# Altium footprint library SS_Connectors.PcbLib: 234 footprints (part 15 of 15)
Each footprint in its own frame and in the unit in brackets; x right, y up, seen from the top. Pads: shape width x height; smd on the part's side, far side on the other; paste and mask are expansions set on the pad; w line width, h text height; cw(c..) or ccw(c..) is an arc to the next point about the centre after c.
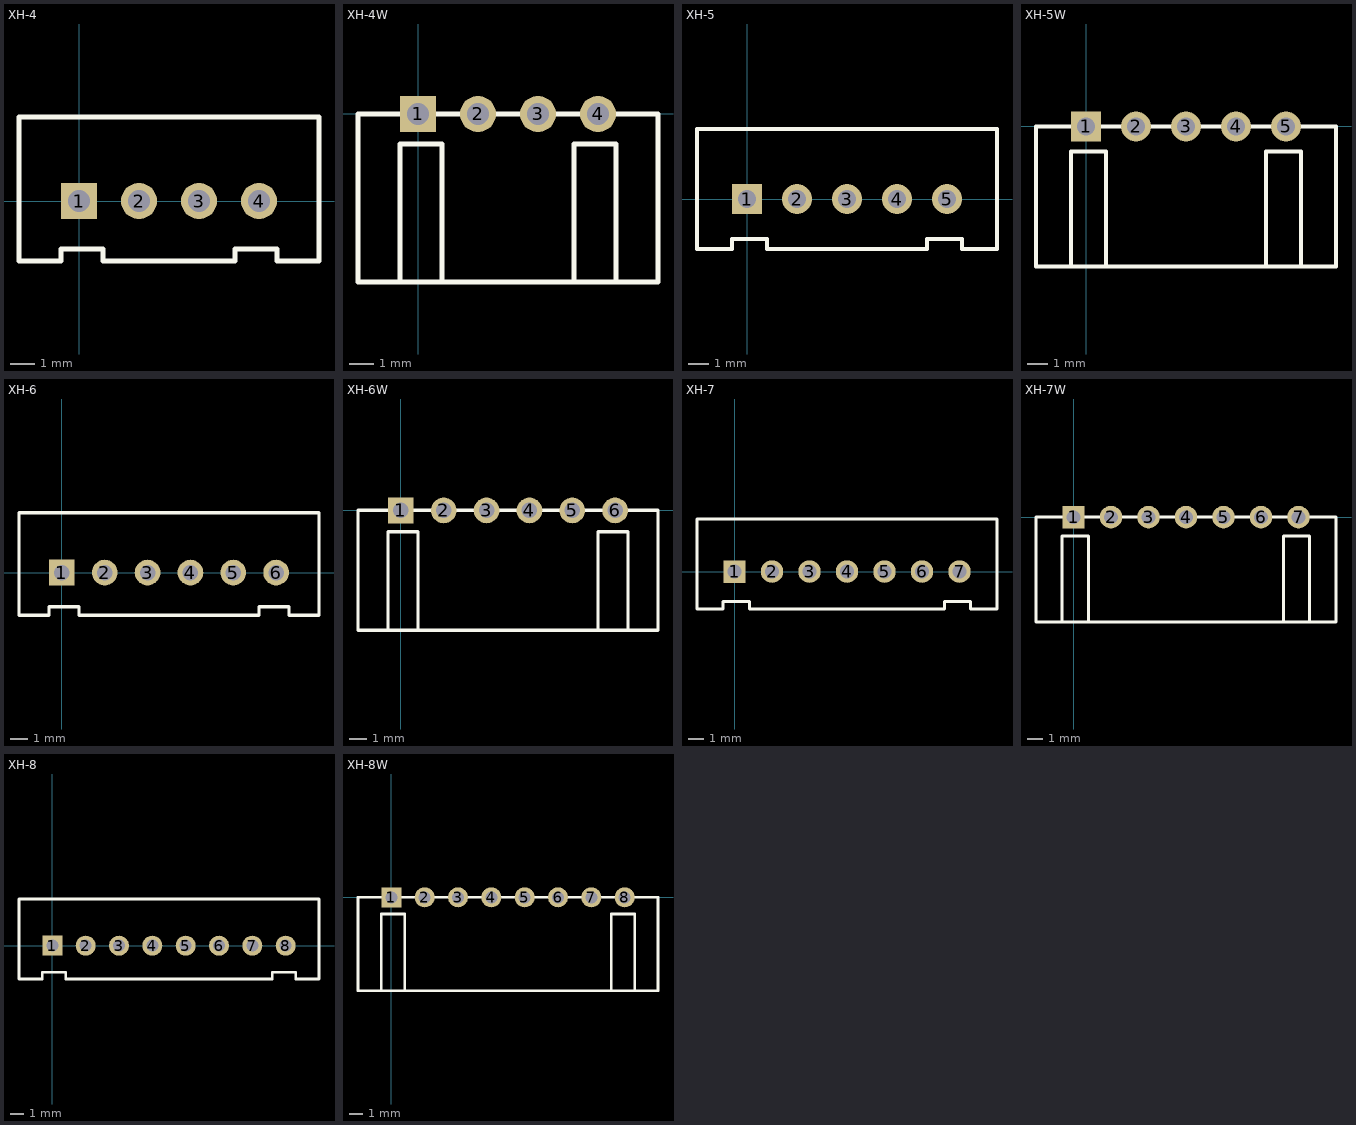
[diagram p14: the footprints below, top view; thin cyan lines are the x and y axes]

## XH-4 [mm] "Connector; Header; 2 Position"
pads (4):
  rect 1.5x1.5 hole 0.9: 1(0,0)
  round 1.5 hole 0.9: 2(2.5,0) 3(5,0) 4(7.5,0)
Top Overlay:
  lines w0.2: -2.5,-2.5 -0.75,-2.5 -0.75,-2 1,-2 1,-2.5 6.5,-2.5 6.5,-2 8.25,-2 8.25,-2.5 10,-2.5 10,3.5 -2.5,3.5 -2.5,-2.5

## XH-4W [mm] "Connector; Header; 2 Position"
pads (4):
  rect 1.5x1.5 hole 0.9: 1(0,0)
  round 1.5 hole 0.9: 2(2.5,0) 3(5,0) 4(7.5,0)
Top Overlay:
  lines w0.2: -0.75,-7 8.25,-7 ; -0.75,-7 -2.5,-7 -2.5,0 10,0 10,-7 8.25,-7 ; -0.75,-7 -0.75,-1.25 1,-1.25 1,-7 6.5,-7 6.5,-1.25 8.25,-1.25 8.25,-7

## XH-5 [mm] "Connector; Header; 2 Position"
pads (5):
  rect 1.5x1.5 hole 0.9: 1(0,0)
  round 1.5 hole 0.9: 2(2.5,0) 3(5,0) 4(7.5,0) 5(10,0)
Top Overlay:
  lines w0.2: -2.5,-2.5 -2.5,3.5 12.5,3.5 12.5,-2.5 10.75,-2.5 10.75,-2 9,-2 9,-2.5 1,-2.5 1,-2 -0.75,-2 -0.75,-2.5 -2.5,-2.5

## XH-5W [mm] "Connector; Header; 2 Position"
pads (5):
  rect 1.5x1.5 hole 0.9: 1(0,0)
  round 1.5 hole 0.9: 2(2.5,0) 3(5,0) 4(7.5,0) 5(10,0)
Top Overlay:
  lines w0.2: -0.75,-7 10.75,-7 ; -0.75,-7 -2.5,-7 -2.5,0 12.5,0 12.5,-7 10.75,-7 ; -0.75,-7 -0.75,-1.25 1,-1.25 1,-7 9,-7 9,-1.25 10.75,-1.25 10.75,-7

## XH-6 [mm] "Connector; Header; 2 Position"
pads (6):
  rect 1.5x1.5 hole 0.9: 1(0,0)
  round 1.5 hole 0.9: 2(2.5,0) 3(5,0) 4(7.5,0) 5(10,0) 6(12.5,0)
Top Overlay:
  lines w0.2: -2.5,-2.5 -0.75,-2.5 -0.75,-2 1,-2 1,-2.5 11.5,-2.5 11.5,-2 13.25,-2 13.25,-2.5 15,-2.5 15,3.5 -2.5,3.5 -2.5,-2.5

## XH-6W [mm] "Connector; Header; 2 Position"
pads (6):
  rect 1.5x1.5 hole 0.9: 1(0,0)
  round 1.5 hole 0.9: 2(2.5,0) 3(5,0) 4(7.5,0) 5(10,0) 6(12.5,0)
Top Overlay:
  lines w0.2: -0.75,-7 13.25,-7 ; -0.75,-7 -0.75,-1.25 1,-1.25 1,-7 11.5,-7 11.5,-1.25 13.25,-1.25 13.25,-7 ; -0.75,-7 -2.5,-7 -2.5,0 15,0 15,-7 13.25,-7

## XH-7 [mm] "Connector; Header; 2 Position"
pads (7):
  rect 1.5x1.5 hole 0.9: 1(0,0)
  round 1.5 hole 0.9: 2(2.5,0) 3(5,0) 4(7.5,0) 5(10,0) 6(12.5,0) 7(15,0)
Top Overlay:
  lines w0.2: -2.5,-2.5 -2.5,3.5 17.5,3.5 17.5,-2.5 15.75,-2.5 15.75,-2 14,-2 14,-2.5 1,-2.5 1,-2 -0.75,-2 -0.75,-2.5 -2.5,-2.5

## XH-7W [mm] "Connector; Header; 2 Position"
pads (7):
  rect 1.5x1.5 hole 0.9: 1(0,0)
  round 1.5 hole 0.9: 2(2.5,0) 3(5,0) 4(7.5,0) 5(10,0) 6(12.5,0) 7(15,0)
Top Overlay:
  lines w0.2: -0.75,-7 15.75,-7 ; -0.75,-7 -0.75,-1.25 1,-1.25 1,-7 14,-7 14,-1.25 15.75,-1.25 15.75,-7 ; -0.75,-7 -2.5,-7 -2.5,0 17.5,0 17.5,-7 15.75,-7

## XH-8 [mm] "Connector; Header; 2 Position"
pads (8):
  rect 1.5x1.5 hole 0.9: 1(0,0)
  round 1.5 hole 0.9: 2(2.5,0) 3(5,0) 4(7.5,0) 5(10,0) 6(12.5,0) 7(15,0) 8(17.5,0)
Top Overlay:
  lines w0.2: -2.5,-2.5 -0.75,-2.5 -0.75,-2 1,-2 1,-2.5 16.5,-2.5 16.5,-2 18.25,-2 18.25,-2.5 20,-2.5 20,3.5 -2.5,3.5 -2.5,-2.5

## XH-8W [mm] "Connector; Header; 2 Position"
pads (8):
  rect 1.5x1.5 hole 0.9: 1(0,0)
  round 1.5 hole 0.9: 2(2.5,0) 3(5,0) 4(7.5,0) 5(10,0) 6(12.5,0) 7(15,0) 8(17.5,0)
Top Overlay:
  lines w0.2: -0.75,-7 18.25,-7 ; -0.75,-7 -2.5,-7 -2.5,0 20,0 20,-7 18.25,-7 ; -0.75,-7 -0.75,-1.25 1,-1.25 1,-7 16.5,-7 16.5,-1.25 18.25,-1.25 18.25,-7